# Altium schematic symbol library 1.6 - ADI系列精密运放.SchLib: 18 symbols
Pins are listed as number, name and electrical type; pins without a type are passive.

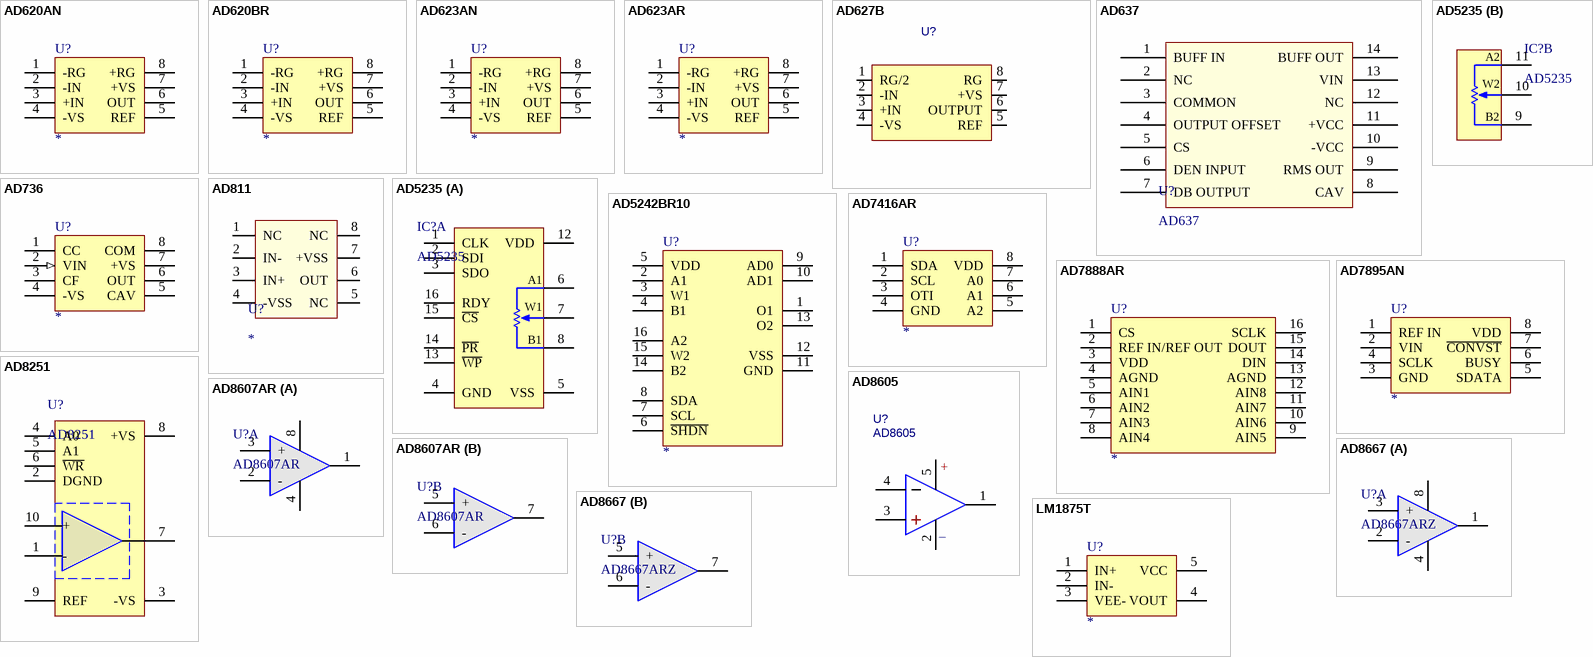
[diagram p0: symbols AD620AN to LM1875T]

## AD620AN
designator U?
CI-AD620AN; 联系卖家，免费技术支持: 唯一出售店铺网址https://shop463601444.taobao.com
footprint DIP-8 (9.4*7.6*3.8(长宽高）)
pins: 1 -RG, 2 -IN, 3 +IN, 4 -VS, 5 REF, 6 OUT, 7 +VS, 8 +RG

## AD620BR
designator U?
CI-AD620BR; 联系卖家，免费技术支持: 唯一出售店铺网址https://shop463601444.taobao.com
footprint SO-8N (封装库来自淘宝卖家 ID：黄晶宝石，其他均为盗版)
pins: 1 -RG, 2 -IN, 3 +IN, 4 -VS, 5 REF, 6 OUT, 7 +VS, 8 +RG

## AD623AN
designator U?
CI-AD623AN; 联系卖家，免费技术支持: 唯一出售店铺网址https://shop463601444.taobao.com
footprint DIP-8 (9.4*7.6*3.8(长宽高）)
pins: 1 -RG, 2 -IN, 3 +IN, 4 -VS, 5 REF, 6 OUT, 7 +VS, 8 +RG

## AD623AR
designator U?
CI-AD623AR; 联系卖家，免费技术支持: 唯一出售店铺网址https://shop463601444.taobao.com
footprint SO-8N (封装库来自淘宝卖家 ID：黄晶宝石，其他均为盗版)
pins: 1 -RG, 2 -IN, 3 +IN, 4 -VS, 5 REF, 6 OUT, 7 +VS, 8 +RG

## AD627B
designator U?
联系卖家，免费技术支持: 唯一出售店铺网址https://shop463601444.taobao.com
footprint SOP8_N (5*6*1.8mm（长宽高）封装库来自淘宝卖家 ID：黄晶宝石)
pins: 1 RG/2, 2 -IN, 3 +IN, 4 -VS, 5 REF, 6 OUTPUT, 7 +VS, 8 RG

## AD637
designator U?
均方根值处理; 联系卖家，免费技术支持: 唯一出售店铺网址https://shop463601444.taobao.com
footprint DIP-14 (Footprint not found)
pins: 1 BUFF IN, 2 NC, 3 COMMON, 4 OUTPUT OFFSET, 5 CS, 6 DEN INPUT, 7 DB OUTPUT, 8 CAV, 9 RMS OUT, 10 -VCC, 11 +VCC, 12 NC, 13 VIN, 14 BUFF OUT

## AD736
designator U?
CI-AD736; 联系卖家，免费技术支持: 唯一出售店铺网址https://shop463601444.taobao.com
footprint SO-8N
pins: 1 CC, 2 VIN (in), 3 CF, 4 -VS (power), 5 CAV, 6 OUT, 7 +VS (power), 8 COM

## AD811
designator U?
运放; 联系卖家，免费技术支持: 唯一出售店铺网址https://shop463601444.taobao.com
footprint DIP-8 (DIP; 8 Leads; Row Spacing 7.62 mm; Pitch 2.54 mm)
pins: 1 NC, 2 IN-, 3 IN+, 4 -VSS, 5 NC, 6 OUT, 7 +VSS, 8 NC

## AD5235
designator IC?
数字电位器; 联系卖家，免费技术支持: 唯一出售店铺网址https://shop463601444.taobao.com
footprint TSSOP16_N (5*6.4*1mm（长宽高）)
footprint TSSOP16_L (5*6.4*1mm（长宽高）)
footprint TSSOP16_M (5*6.4*1mm（长宽高）)
part A pins: 1 CLK, 2 SDI, 3 SDO, 4 GND, 5 VSS, 6 A1, 7 W1, 8 B1, 12 VDD, 13 ~{WP}, 14 ~{PR}, 15 ~{CS}, 16 RDY
part B pins: 9 B2, 10 W2, 11 A2

## AD5242BR10
designator U?
CI-AD5242BR10; 联系卖家，免费技术支持: 唯一出售店铺网址https://shop463601444.taobao.com
footprint SO-16N
pins: 1 O1, 2 A1, 3 W1, 4 B1, 5 VDD (power), 6 ~{SHDN}, 7 SCL, 8 SDA, 9 AD0, 10 AD1, 11 GND (power), 12 VSS, 13 O2, 14 B2, 15 W2, 16 A2

## AD7416AR
designator U?
CI-AD7416AR; 联系卖家，免费技术支持: 唯一出售店铺网址https://shop463601444.taobao.com
footprint SO-8N
pins: 1 SDA, 2 SCL, 3 OTI, 4 GND (power), 5 A2, 6 A1, 7 A0, 8 VDD (power)

## AD7888AR
designator U?
CI-AD7888AR; 联系卖家，免费技术支持: 唯一出售店铺网址https://shop463601444.taobao.com
footprint SO-16N
pins: 1 CS, 2 REF IN/REF OUT, 3 VDD (power), 4 AGND, 5 AIN1, 6 AIN2, 7 AIN3, 8 AIN4, 9 AIN5, 10 AIN6, 11 AIN7, 12 AIN8, 13 AGND, 14 DIN, 15 DOUT, 16 SCLK

## AD7895AN
designator U?
CI-AD7895AN; 联系卖家，免费技术支持: 唯一出售店铺网址https://shop463601444.taobao.com
footprint DIP-8 (9.4*7.6*3.8(长宽高）)
pins: 1 REF IN, 2 VIN, 3 GND (power), 4 SCLK, 5 SDATA, 6 BUSY, 7 ~{CONVST}, 8 VDD (power)

## AD8251
designator U?
可控增益运放; 联系卖家，免费技术支持: 唯一出售店铺网址https://shop463601444.taobao.com
footprint MSOP-UN10_N (TSSOP)
pins: 1 -, 2 DGND, 3 -VS, 4 A0, 5 A1, 6 ~{WR}, 7 OUT, 8 +VS, 9 REF, 10 +

## AD8605
designator U?
联系卖家，免费技术支持: 唯一出售店铺网址https://shop463601444.taobao.com
footprint SOT23-5N (3x1.6x1.1mm(长宽高)  封装库来自淘宝卖家 ID：黄晶宝石)
pins: 1 OUT, 2 -V, 3 +IN, 4 -IN, 5 +V
text: +; _

## AD8607AR
designator U?
双运放; 联系卖家，免费技术支持: 唯一出售店铺网址https://shop463601444.taobao.com
footprint SOP8_N (5*6*1.8mm（长宽高）)
footprint SOP8_L (5*6*1.8mm（长宽高）)
footprint SOP8_M (5*6*1.8mm（长宽高）)
part A pins: 1 OUT1, 2 -, 3 +, 4 V- (power), 8 V+ (power)
part B pins: 5 +, 6 -, 7 OUT2

## AD8667
designator U?, comment AD8667ARZ
双运放; 联系卖家，免费技术支持: 唯一出售店铺网址https://shop463601444.taobao.com
footprint SOP8_N (5*6*1.8mm（长宽高）)
footprint SOP8_L (5*6*1.8mm（长宽高）)
footprint SOP8_M (5*6*1.8mm（长宽高）)
part A pins: 1 OUT1, 2 -, 3 +, 4 V-, 8 V+
part B pins: 5 +, 6 -, 7 OUT2

## LM1875T
designator U?
CI-LM1875T; 联系卖家，免费技术支持: 唯一出售店铺网址https://shop463601444.taobao.com
footprint TO220-5
pins: 1 IN+, 2 IN-, 3 VEE- (power), 4 VOUT, 5 VCC (power)